# Altium footprint library PCB封装.PcbLib: 150 footprints (part 5 of 10)
Each footprint in its own frame and in the unit in brackets; x right, y up, seen from the top. Pads: shape width x height; smd on the part's side, far side on the other; paste and mask are expansions set on the pad; w line width, h text height; cw(c..) or ccw(c..) is an arc to the next point about the centre after c.
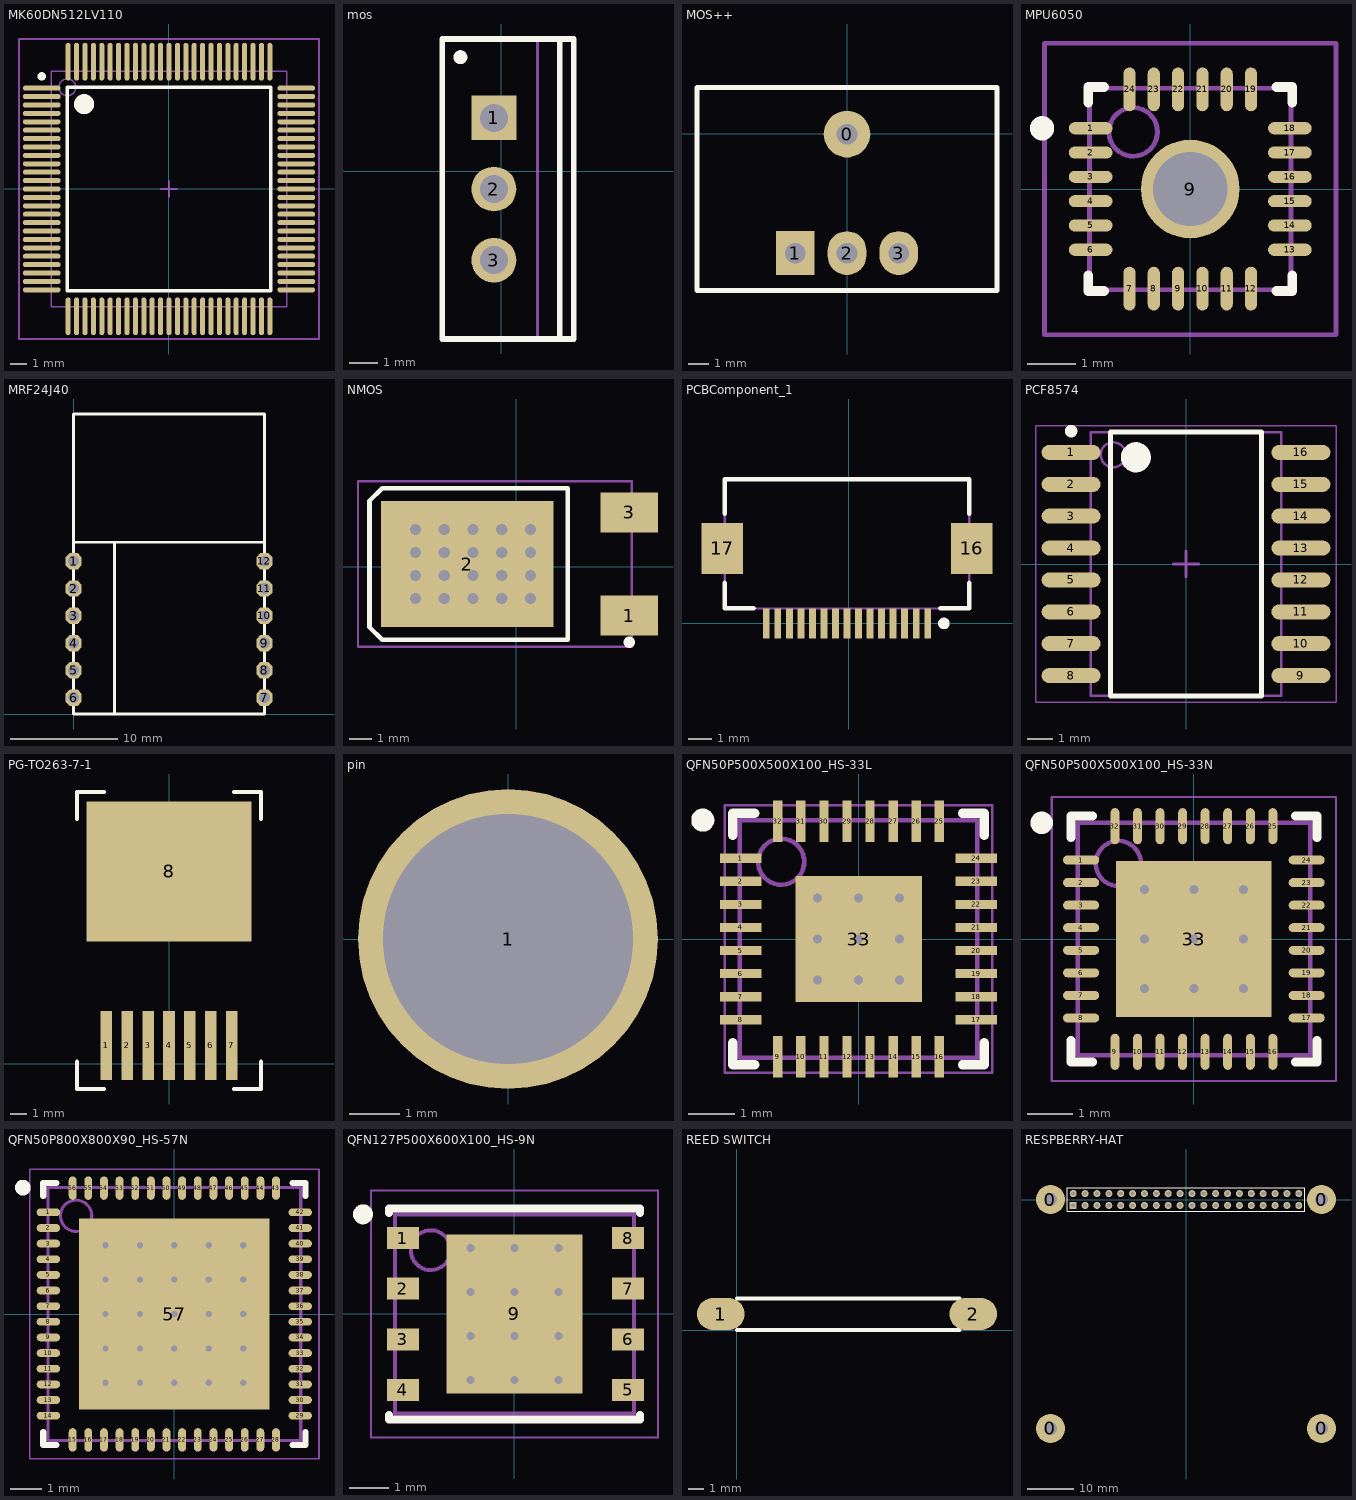
[diagram p4: the footprints below, top view; thin cyan lines are the x and y axes]

## MK60DN512LV110 [mm]
pads (100):
  oval 2.25x0.3 smd: 1(-7.575,6) 2(-7.575,5.5) 3(-7.575,5) 4(-7.575,4.5) 5(-7.575,4) 6(-7.575,3.5) 7(-7.575,3) 8(-7.575,2.5) 9(-7.575,2) 10(-7.575,1.5) 11(-7.575,1) 12(-7.575,0.5) 13(-7.575,0) 14(-7.575,-0.5) 15(-7.575,-1) 16(-7.575,-1.5) 17(-7.575,-2) 18(-7.575,-2.5) 19(-7.575,-3) 20(-7.575,-3.5) 21(-7.575,-4) 22(-7.575,-4.5) 23(-7.575,-5) 24(-7.575,-5.5) 25(-7.575,-6) 51(7.575,-6) 52(7.575,-5.5) 53(7.575,-5) 54(7.575,-4.5) 55(7.575,-4) 56(7.575,-3.5) 57(7.575,-3) 58(7.575,-2.5) 59(7.575,-2) 60(7.575,-1.5) 61(7.575,-1) 62(7.575,-0.5) 63(7.575,0) 64(7.575,0.5) 65(7.575,1) 66(7.575,1.5) 67(7.575,2) 68(7.575,2.5) 69(7.575,3) 70(7.575,3.5) 71(7.575,4) 72(7.575,4.5) 73(7.575,5) 74(7.575,5.5) 75(7.575,6)
  oval 0.3x2.25 smd: 26(-6,-7.575) 27(-5.5,-7.575) 28(-5,-7.575) 29(-4.5,-7.575) 30(-4,-7.575) 31(-3.5,-7.575) 32(-3,-7.575) 33(-2.5,-7.575) 34(-2,-7.575) 35(-1.5,-7.575) 36(-1,-7.575) 37(-0.5,-7.575) 38(0,-7.575) 39(0.5,-7.575) 40(1,-7.575) 41(1.5,-7.575) 42(2,-7.575) 43(2.5,-7.575) 44(3,-7.575) 45(3.5,-7.575) 46(4,-7.575) 47(4.5,-7.575) 48(5,-7.575) 49(5.5,-7.575) 50(6,-7.575) 76(6,7.575) 77(5.5,7.575) 78(5,7.575) 79(4.5,7.575) 80(4,7.575) 81(3.5,7.575) 82(3,7.575) 83(2.5,7.575) 84(2,7.575) 85(1.5,7.575) 86(1,7.575) 87(0.5,7.575) 88(0,7.575) 89(-0.5,7.575) 90(-1,7.575) 91(-1.5,7.575) 92(-2,7.575) 93(-2.5,7.575) 94(-3,7.575) 95(-3.5,7.575) 96(-4,7.575) 97(-4.5,7.575) 98(-5,7.575) 99(-5.5,7.575) 100(-6,7.575)
Top Overlay:
  circle w0.6: c-5.05,5.05 r0.3
  circle w0.25: c-7.575,6.7 r0.125
  lines w0.2: -6.05,-6.05 6.05,-6.05 6.05,6.05 -6.05,6.05 -6.05,-6.05
Mechanical 13:
  circle w0.1: c-6.05,6.05 r0.5
  lines w0.1: -7,-7 7,-7 7,7 -7,7 -7,-7
Mechanical 15:
  lines w0.1: -0.5,0 0.5,0 ; 0,-0.5 0,0.5 ; -8.925,-8.925 8.925,-8.925 8.925,8.925 -8.925,8.925 -8.925,-8.925
3D body: height 1.5, standoff 0.25, extent -7,-7 7,7

## mos [mm]
height 10
pads (3):
  rect 1.6x1.6 hole 1: 1(-0.254,1.905)
  round 1.6 hole 1: 2(-0.254,-0.635) 3(-0.254,-3.175)
Top Overlay:
  circle w0.25: c-1.454,4.065 r0.125
  lines w0.2: 2.096,-5.985 2.096,4.715 ; -2.104,-5.985 2.596,-5.985 2.596,4.715 -2.104,4.715 -2.104,-5.985
Mechanical 13:
  lines w0.1: 1.296,-5.985 1.296,4.715 ; -2.104,-5.985 -2.104,4.715 2.596,4.715 2.596,-5.985 -2.104,-5.985
Mechanical 15:
  lines w0.1: -0.754,-0.635 0.246,-0.635 ; -0.254,-1.135 -0.254,-0.135
3D body: height 12.9, standoff 4, extent -2.154,-6.035 2.646,4.765
3D body: height 19.3, standoff 12.9, extent 1.297,-5.984 2.595,4.714

## MOS++ [mil]
pads (4):
  round 90 hole 40: 0(0,-1)
  rect 75x85 hole 40: 1(-100,-231)
  oval 75x85 hole 40: 2(0,-231) 3(100,-231)
Top Overlay:
  lines w10: -290,-303 -290,89 290,89 290,-303 -290,-303

## MPU6050 [mm]
height 3
pads (26):
  oval 0.9x0.25 smd: 1(-2.05,1.25) 2(-2.05,0.75) 3(-2.05,0.25) 4(-2.05,-0.25) 5(-2.05,-0.75) 6(-2.05,-1.25) 13(2.05,-1.25) 14(2.05,-0.75) 15(2.05,-0.25) 16(2.05,0.25) 17(2.05,0.75) 18(2.05,1.25)
  oval 0.25x0.9 smd: 7(-1.25,-2.05) 8(-0.75,-2.05) 9(-0.25,-2.05) 10(0.25,-2.05) 11(0.75,-2.05) 12(1.25,-2.05) 19(1.25,2.05) 20(0.75,2.05) 21(0.25,2.05) 22(-0.25,2.05) 23(-0.75,2.05) 24(-1.25,2.05)
  round 2.032 hole 1.524: 9(0,0)
  round 0 smd: 25(0,0)
Top Overlay:
  circle w0.25: c-3.05,1.25 r0.125
  lines w0.2: -2.1,-1.775 -2.1,-2.1 -1.775,-2.1 ; -2.1,1.775 -2.1,2.1 -1.775,2.1 ; 1.775,-2.1 2.1,-2.1 2.1,-1.775 ; 1.775,2.1 2.1,2.1 2.1,1.775
Mechanical 13:
  circle w0.1: c-1.175,1.175 r0.5
  lines w0.1: -2.075,-2.075 -2.075,2.075 2.075,2.075 2.075,-2.075 -2.075,-2.075
Mechanical 15:
  lines w0.1: -0.5,0 0.5,0 ; 0,-0.5 0,0.5 ; -3,-3 -3,3 3,3 3,-3 -3,-3
3D body: height 1, standoff 0, extent -2.075,-2.075 2.075,2.075

## MRF24J40 [mil]
pads (12):
  oct 60x60 hole 40: 1(0,560) 2(0,460) 3(0,360) 4(0,260) 5(0,160) 6(0,60) 7(700,60) 8(700,160) 9(700,260) 10(700,360) 11(700,460) 12(700,560)
Top Overlay:
  lines w10: 0,630 700,630 ; 150,0 150,630 ; 0,0 700,0 700,1100 0,1100 0,0

## NMOS [mil]
height 196.85
pads (3):
  rect 100x70 smd: 1(196.22,-84.76) 3(196.22,94.76)
  rect 299.21x218.5 smd: 2(-85.51,5)
via 24.49,-55 diameter 31.5 hole 19.68
via 24.49,-15 diameter 31.5 hole 19.68
via 24.49,65 diameter 31.5 hole 19.68
via 24.49,25 diameter 31.5 hole 19.68
via -175.51,-55 diameter 31.5 hole 19.68
via -75.51,-55 diameter 31.5 hole 19.68
via -25.51,-15 diameter 31.5 hole 19.68
via -25.51,-55 diameter 31.5 hole 19.68
via -25.51,25 diameter 31.5 hole 19.68
via -25.51,65 diameter 31.5 hole 19.68
via -75.51,-15 diameter 31.5 hole 19.68
via -75.51,25 diameter 31.5 hole 19.68
via -75.51,65 diameter 31.5 hole 19.68
via -125.51,-55 diameter 31.5 hole 19.68
via -125.51,-15 diameter 31.5 hole 19.68
via -125.51,25 diameter 31.5 hole 19.68
via -125.51,65 diameter 31.5 hole 19.68
via -175.51,-15 diameter 31.5 hole 19.68
via -175.51,25 diameter 31.5 hole 19.68
via -175.51,65 diameter 31.5 hole 19.68
Top Overlay:
  circle w9.84: c196.22,-131.02 r4.92
  lines w7.87: -255.51,-105 -255.51,115 -233.62,136.89 89.49,136.89 89.49,-126.89 -233.62,-126.89 -255.51,-105
Mechanical 15:
  lines w3.94: -18.35,5 21.02,5 ; 1.34,-14.69 1.34,24.68 ; -275.51,-138.7 -275.51,148.7 200.35,148.7 200.35,-138.7 -275.51,-138.7

## PCBComponent_1 [mm]
pads (17):
  rect 0.3x1.3 smd: 1(3.424,0.001) 2(2.924,0.001) 3(2.424,0.001) 4(1.924,0.001) 5(1.424,0.001) 6(0.924,0.001) 7(0.424,0.001) 8(-0.076,0.001) 9(-0.576,0.001) 10(-1.076,0.001) 11(-1.576,0.001) 12(-2.076,0.001) 13(-2.576,0.001) 14(-3.076,0.001) 15(-3.576,0.001)
  rect 1.8x2.2 smd: 16(5.324,3.251) 17(-5.476,3.251)
Top Overlay:
  circle w0.25: c4.124,0.001 r0.125
  lines w0.2: -5.376,1.751 -5.376,0.651 -4.126,0.651 ; -5.376,4.751 -5.376,6.251 5.224,6.251 5.224,4.751 ; 3.974,0.651 5.224,0.651 5.224,1.751
Mechanical 13:
  lines w0.1: -5.376,0.651 -5.376,6.251 5.224,6.251 5.224,0.651 -5.376,0.651
3D body: height 2, standoff 0, extent -5.376,0.651 5.224,6.251

## PCF8574 [mm] "PCF8574"
height 2.65
pads (16):
  oval 2.35x0.6 smd: 1(-4.575,4.445) 2(-4.575,3.175) 3(-4.575,1.905) 4(-4.575,0.635) 5(-4.575,-0.635) 6(-4.575,-1.905) 7(-4.575,-3.175) 8(-4.575,-4.445) 9(4.575,-4.445) 10(4.575,-3.175) 11(4.575,-1.905) 12(4.575,-0.635) 13(4.575,0.635) 14(4.575,1.905) 15(4.575,3.175) 16(4.575,4.445)
Top Overlay:
  circle w0.6: c-2,4.25 r0.3
  circle w0.25: c-4.575,5.295 r0.125
  lines w0.2: -3,-5.25 3,-5.25 3,5.25 -3,5.25 -3,-5.25
Mechanical 13:
  circle w0.1: c-2.9,4.35 r0.5
  lines w0.1: -3.8,-5.25 3.8,-5.25 3.8,5.25 -3.8,5.25 -3.8,-5.25
Mechanical 15:
  lines w0.05: -5.975,-5.5 5.975,-5.5 5.975,5.5 -5.975,5.5 -5.975,-5.5
  lines w0.1: -0.5,0 0.5,0 ; 0,-0.5 0,0.5
3D body: height 2.65, standoff 0.25, extent -3.8,-5.25 3.8,5.25

## PG-TO263-7-1 [mm]
pads (8):
  rect 0.7x4.2 smd: 1(-3.81,1.123) 2(-2.54,1.123) 3(-1.27,1.123) 4(0,1.123) 5(1.27,1.123) 6(2.54,1.123) 7(3.81,1.123)
  rect 10x8.5 smd: 8(0,11.684)
Top Overlay:
  lines w0.254: -5.588,0.127 -5.588,-1.524 -3.937,-1.524 ; -5.588,14.859 -5.588,16.51 -3.937,16.51 ; 3.937,-1.524 5.588,-1.524 5.588,0.127 ; 3.937,16.51 5.588,16.51 5.588,14.859

## pin [mm]
pads (1):
  round 6 hole 5: 1(0,0)

## QFN50P500X500X100_HS-33L [mm] "MTUSB2046"
height 1
pads (33):
  rect 0.9x0.2 smd: 1(-2.55,1.75) 2(-2.55,1.25) 3(-2.55,0.75) 4(-2.55,0.25) 5(-2.55,-0.25) 6(-2.55,-0.75) 7(-2.55,-1.25) 8(-2.55,-1.75) 17(2.55,-1.75) 18(2.55,-1.25) 19(2.55,-0.75) 20(2.55,-0.25) 21(2.55,0.25) 22(2.55,0.75) 23(2.55,1.25) 24(2.55,1.75)
  rect 0.2x0.9 smd: 9(-1.75,-2.55) 10(-1.25,-2.55) 11(-0.75,-2.55) 12(-0.25,-2.55) 13(0.25,-2.55) 14(0.75,-2.55) 15(1.25,-2.55) 16(1.75,-2.55) 25(1.75,2.55) 26(1.25,2.55) 27(0.75,2.55) 28(0.25,2.55) 29(-0.25,2.55) 30(-0.75,2.55) 31(-1.25,2.55) 32(-1.75,2.55)
  rect 2.74x2.74 smd: 33(0,0)
via -0.889,0.889 diameter 0.5 hole 0.2
via 0.889,-0.889 diameter 0.5 hole 0.2
via 0.889,0.889 diameter 0.5 hole 0.2
via 0,-0.889 diameter 0.5 hole 0.2
via -0.889,-0.889 diameter 0.5 hole 0.2
via 0.889,0 diameter 0.5 hole 0.2
via 0,0 diameter 0.5 hole 0.2
via -0.889,0 diameter 0.5 hole 0.2
via 0,0.889 diameter 0.5 hole 0.2
Top Overlay:
  circle w0.25: c-3.375,2.575 r0.125
  lines w0.2: -2.725,-2.25 -2.725,-2.725 -2.25,-2.725 ; -2.725,2.25 -2.725,2.725 -2.25,2.725 ; 2.25,-2.725 2.725,-2.725 2.725,-2.25 ; 2.25,2.725 2.725,2.725 2.725,2.25
Mechanical 13:
  circle w0.1: c-1.675,1.675 r0.5
  lines w0.1: -2.575,-2.575 2.575,-2.575 2.575,2.575 -2.575,2.575 -2.575,-2.575
Mechanical 15:
  lines w0.05: -2.9,-2.9 2.9,-2.9 2.9,2.9 -2.9,2.9 -2.9,-2.9
  lines w0.1: -0.5,0 0.5,0 ; 0,-0.5 0,0.5
3D body: height 1, standoff 0.05, extent -2.575,-2.575 2.575,2.575

## QFN50P500X500X100_HS-33N [mm] "QFN, 32-Leads, Body 5.00x5.00mm, Pitch 0.50mm, Thermal Pad 3.45x3.45mm, IPC Medium Density TPS65261"
height 1
pads (33):
  oval 0.8x0.2 smd: 1(-2.5,1.75) 2(-2.5,1.25) 3(-2.5,0.75) 4(-2.5,0.25) 5(-2.5,-0.25) 6(-2.5,-0.75) 7(-2.5,-1.25) 8(-2.5,-1.75) 17(2.5,-1.75) 18(2.5,-1.25) 19(2.5,-0.75) 20(2.5,-0.25) 21(2.5,0.25) 22(2.5,0.75) 23(2.5,1.25) 24(2.5,1.75)
  oval 0.2x0.8 smd: 9(-1.75,-2.5) 10(-1.25,-2.5) 11(-0.75,-2.5) 12(-0.25,-2.5) 13(0.25,-2.5) 14(0.75,-2.5) 15(1.25,-2.5) 16(1.75,-2.5) 25(1.75,2.5) 26(1.25,2.5) 27(0.75,2.5) 28(0.25,2.5) 29(-0.25,2.5) 30(-0.75,2.5) 31(-1.25,2.5) 32(-1.75,2.5)
  rect 3.45x3.45 smd: 33(0,0)
via 1.1,-1.1 diameter 0.5 hole 0.2
via 0,-1.1 diameter 0.5 hole 0.2
via -1.1,-1.1 diameter 0.5 hole 0.2
via 1.1,0 diameter 0.5 hole 0.2
via 0,0 diameter 0.5 hole 0.2
via -1.1,0 diameter 0.5 hole 0.2
via 1.1,1.1 diameter 0.5 hole 0.2
via 0,1.1 diameter 0.5 hole 0.2
via -1.1,1.1 diameter 0.5 hole 0.2
Top Overlay:
  circle w0.25: c-3.375,2.575 r0.125
  lines w0.2: -2.725,-2.25 -2.725,-2.725 -2.25,-2.725 ; -2.725,2.25 -2.725,2.725 -2.25,2.725 ; 2.25,-2.725 2.725,-2.725 2.725,-2.25 ; 2.25,2.725 2.725,2.725 2.725,2.25
Mechanical 13:
  circle w0.1: c-1.675,1.675 r0.5
  lines w0.1: -2.575,-2.575 2.575,-2.575 2.575,2.575 -2.575,2.575 -2.575,-2.575
Mechanical 15:
  lines w0.05: -3.15,-3.15 3.15,-3.15 3.15,3.15 -3.15,3.15 -3.15,-3.15
  lines w0.1: -0.5,0 0.5,0 ; 0,-0.5 0,0.5
3D body: height 1, standoff 0.05, extent -2.575,-2.575 2.575,2.575

## QFN50P800X800X90_HS-57N [mm] "QFN, 56-Leads, Body 8.00x8.00mm, Pitch 0.50mm, Thermal Pad 6.10x6.10mm, IPC Medium Density"
height 0.9
pads (57):
  oval 0.75x0.25 smd: 1(-4.025,3.25) 2(-4.025,2.75) 3(-4.025,2.25) 4(-4.025,1.75) 5(-4.025,1.25) 6(-4.025,0.75) 7(-4.025,0.25) 8(-4.025,-0.25) 9(-4.025,-0.75) 10(-4.025,-1.25) 11(-4.025,-1.75) 12(-4.025,-2.25) 13(-4.025,-2.75) 14(-4.025,-3.25) 29(4.025,-3.25) 30(4.025,-2.75) 31(4.025,-2.25) 32(4.025,-1.75) 33(4.025,-1.25) 34(4.025,-0.75) 35(4.025,-0.25) 36(4.025,0.25) 37(4.025,0.75) 38(4.025,1.25) 39(4.025,1.75) 40(4.025,2.25) 41(4.025,2.75) 42(4.025,3.25)
  oval 0.25x0.75 smd: 15(-3.25,-4.025) 16(-2.75,-4.025) 17(-2.25,-4.025) 18(-1.75,-4.025) 19(-1.25,-4.025) 20(-0.75,-4.025) 21(-0.25,-4.025) 22(0.25,-4.025) 23(0.75,-4.025) 24(1.25,-4.025) 25(1.75,-4.025) 26(2.25,-4.025) 27(2.75,-4.025) 28(3.25,-4.025) 43(3.25,4.025) 44(2.75,4.025) 45(2.25,4.025) 46(1.75,4.025) 47(1.25,4.025) 48(0.75,4.025) 49(0.25,4.025) 50(-0.25,4.025) 51(-0.75,4.025) 52(-1.25,4.025) 53(-1.75,4.025) 54(-2.25,4.025) 55(-2.75,4.025) 56(-3.25,4.025)
  rect 6.1x6.1 smd: 57(0,0)
via -2.2,2.2 diameter 0.5 hole 0.2
via -1.1,2.2 diameter 0.5 hole 0.2
via 0,2.2 diameter 0.5 hole 0.2
via 1.1,2.2 diameter 0.5 hole 0.2
via 2.2,2.2 diameter 0.5 hole 0.2
via -2.2,1.1 diameter 0.5 hole 0.2
via -1.1,1.1 diameter 0.5 hole 0.2
via 0,1.1 diameter 0.5 hole 0.2
via 1.1,1.1 diameter 0.5 hole 0.2
via 2.2,1.1 diameter 0.5 hole 0.2
via -2.2,0 diameter 0.5 hole 0.2
via -1.1,0 diameter 0.5 hole 0.2
via 0,0 diameter 0.5 hole 0.2
via 1.1,0 diameter 0.5 hole 0.2
via 2.2,0 diameter 0.5 hole 0.2
via -2.2,-1.1 diameter 0.5 hole 0.2
via -1.1,-1.1 diameter 0.5 hole 0.2
via 0,-1.1 diameter 0.5 hole 0.2
via 1.1,-1.1 diameter 0.5 hole 0.2
via 2.2,-1.1 diameter 0.5 hole 0.2
via -2.2,-2.2 diameter 0.5 hole 0.2
via -1.1,-2.2 diameter 0.5 hole 0.2
via 0,-2.2 diameter 0.5 hole 0.2
via 1.1,-2.2 diameter 0.5 hole 0.2
via 2.2,-2.2 diameter 0.5 hole 0.2
Top Overlay:
  circle w0.25: c-4.84,4.04 r0.125
  lines w0.2: -4.19,-3.775 -4.19,-4.19 -3.775,-4.19 ; -4.19,3.775 -4.19,4.19 -3.775,4.19 ; 3.775,-4.19 4.19,-4.19 4.19,-3.775 ; 3.775,4.19 4.19,4.19 4.19,3.775
Mechanical 13:
  circle w0.1: c-3.14,3.14 r0.5
  lines w0.1: -4.04,-4.04 -4.04,4.04 4.04,4.04 4.04,-4.04 -4.04,-4.04
Mechanical 15:
  lines w0.05: -4.625,-4.625 -4.625,4.625 4.625,4.625 4.625,-4.625 -4.625,-4.625
  lines w0.1: -0.5,0 0.5,0 ; 0,-0.5 0,0.5
3D body: height 0.9, standoff 0.05, extent -4.04,-4.04 4.04,4.04

## QFN127P500X600X100_HS-9N [mm] "QFN, 8-Leads, Body 5.00x6.00mm, Pitch 1.27mm, Thermal Pad 4.00x3.40mm, IPC Medium Density"
height 1
pads (9):
  rect 0.8x0.55 smd: 1(-2.8,1.905) 2(-2.8,0.635) 3(-2.8,-0.635) 4(-2.8,-1.905) 5(2.85,-1.905) 6(2.85,-0.635) 7(2.85,0.635) 8(2.85,1.905)
  rect 3.4x4 smd paste+0 mask+0: 9(0,0)
via -1.1,1.65 diameter 0.5 hole 0.2
via 0,1.65 diameter 0.5 hole 0.2
via 1.1,1.65 diameter 0.5 hole 0.2
via -1.1,0.55 diameter 0.5 hole 0.2
via 0,0.55 diameter 0.5 hole 0.2
via 1.1,0.55 diameter 0.5 hole 0.2
via -1.1,-0.55 diameter 0.5 hole 0.2
via 0,-0.55 diameter 0.5 hole 0.2
via 1.1,-0.55 diameter 0.5 hole 0.2
via -1.1,-1.65 diameter 0.5 hole 0.2
via 0,-1.65 diameter 0.5 hole 0.2
via 1.1,-1.65 diameter 0.5 hole 0.2
Top Overlay:
  circle w0.25: c-3.8,2.5 r0.125
  lines w0.2: -3.15,-2.53 -3.15,-2.65 0.01,-2.65 ; -3.15,2.53 -3.15,2.65 0.01,2.65 ; -0.01,-2.65 3.15,-2.65 3.15,-2.53 ; -0.01,2.65 3.15,2.65 3.15,2.53
Mechanical 13:
  circle w0.1: c-2.1,1.6 r0.5
  lines w0.1: -3,-2.5 -3,2.5 3,2.5 3,-2.5 -3,-2.5
Mechanical 15:
  lines w0.05: -3.6,-3.1 -3.6,3.1 3.6,3.1 3.6,-3.1 -3.6,-3.1
  lines w0.1: -0.5,0 0.5,0 ; 0,-0.5 0,0.5
3D body: height 1, standoff 0.05, extent -3,-2.5 3,2.5

## REED SWITCH [mm]
height 2
pads (2):
  oval 3x2 smd: 1(-1.016,1.016) 2(14.859,1.016)
Top Overlay:
  lines w0.245: 0,0 14,0 ; 0,2 14,2

## RESPBERRY-HAT [mm]
pads (44):
  round 6.2 hole 2.75: 0(-29,-49) 0(-29,0) 0(29,-49) 0(29,0)
  rect 1.5x1.5 hole 0.9: 1(-24.13,-1.27)
  round 1.5 hole 0.9: 2(-24.13,1.27) 3(-21.59,-1.27) 4(-21.59,1.27) 5(-19.05,-1.27) 6(-19.05,1.27) 7(-16.51,-1.27) 8(-16.51,1.27) 9(-13.97,-1.27) 10(-13.97,1.27) 11(-11.43,-1.27) 12(-11.43,1.27) 13(-8.89,-1.27) 14(-8.89,1.27) 15(-6.35,-1.27) 16(-6.35,1.27) 17(-3.81,-1.27) 18(-3.81,1.27) 19(-1.27,-1.27) 20(-1.27,1.27) 21(1.27,-1.27) 22(1.27,1.27) 23(3.81,-1.27) 24(3.81,1.27) 25(6.35,-1.27) 26(6.35,1.27) 27(8.89,-1.27) 28(8.89,1.27) 29(11.43,-1.27) 30(11.43,1.27) 31(13.97,-1.27) 32(13.97,1.27) 33(16.51,-1.27) 34(16.51,1.27) 35(19.05,-1.27) 36(19.05,1.27) 37(21.59,-1.27) 38(21.59,1.27) 39(24.13,-1.27) 40(24.13,1.27)
Top Overlay:
  lines w0.2: -25.4,-2.54 25.4,-2.54 25.4,2.54 -25.4,2.54 -25.4,-2.54
3D body "HEADER.STEP": height 7.58, standoff -2.94, extent 22.86,0 25.4,2.54
3D body "HEADER.STEP": height 7.58, standoff -2.94, extent 20.32,0 22.86,2.54
3D body "HEADER.STEP": height 7.58, standoff -2.94, extent 17.78,0 20.32,2.54
3D body "HEADER.STEP": height 7.58, standoff -2.94, extent 15.24,0 17.78,2.54
3D body "HEADER.STEP": height 7.58, standoff -2.94, extent 22.86,-2.54 25.4,0
3D body "HEADER.STEP": height 7.58, standoff -2.94, extent 20.32,-2.54 22.86,0
3D body "HEADER.STEP": height 7.58, standoff -2.94, extent 17.78,-2.54 20.32,0
3D body "HEADER.STEP": height 7.58, standoff -2.94, extent 15.24,-2.54 17.78,0
3D body "HEADER.STEP": height 7.58, standoff -2.94, extent 12.7,0 15.24,2.54
3D body "HEADER.STEP": height 7.58, standoff -2.94, extent 10.16,0 12.7,2.54
3D body "HEADER.STEP": height 7.58, standoff -2.94, extent 7.62,0 10.16,2.54
3D body "HEADER.STEP": height 7.58, standoff -2.94, extent 5.08,0 7.62,2.54
3D body "HEADER.STEP": height 7.58, standoff -2.94, extent 12.7,-2.54 15.24,0
3D body "HEADER.STEP": height 7.58, standoff -2.94, extent 10.16,-2.54 12.7,0
3D body "HEADER.STEP": height 7.58, standoff -2.94, extent 7.62,-2.54 10.16,0
3D body "HEADER.STEP": height 7.58, standoff -2.94, extent 5.08,-2.54 7.62,0
3D body "HEADER.STEP": height 7.58, standoff -2.94, extent 2.54,0 5.08,2.54
3D body "HEADER.STEP": height 7.58, standoff -2.94, extent 0,0 2.54,2.54
3D body "HEADER.STEP": height 7.58, standoff -2.94, extent -2.54,0 0,2.54
3D body "HEADER.STEP": height 7.58, standoff -2.94, extent -5.08,0 -2.54,2.54
3D body "HEADER.STEP": height 7.58, standoff -2.94, extent 2.54,-2.54 5.08,0
3D body "HEADER.STEP": height 7.58, standoff -2.94, extent 0,-2.54 2.54,0
3D body "HEADER.STEP": height 7.58, standoff -2.94, extent -2.54,-2.54 0,0
3D body "HEADER.STEP": height 7.58, standoff -2.94, extent -5.08,-2.54 -2.54,0
3D body "HEADER.STEP": height 7.58, standoff -2.94, extent -7.62,0 -5.08,2.54
3D body "HEADER.STEP": height 7.58, standoff -2.94, extent -10.16,0 -7.62,2.54
3D body "HEADER.STEP": height 7.58, standoff -2.94, extent -12.7,0 -10.16,2.54
3D body "HEADER.STEP": height 7.58, standoff -2.94, extent -15.24,0 -12.7,2.54
3D body "HEADER.STEP": height 7.58, standoff -2.94, extent -7.62,-2.54 -5.08,0
3D body "HEADER.STEP": height 7.58, standoff -2.94, extent -10.16,-2.54 -7.62,0
3D body "HEADER.STEP": height 7.58, standoff -2.94, extent -12.7,-2.54 -10.16,0
3D body "HEADER.STEP": height 7.58, standoff -2.94, extent -15.24,-2.54 -12.7,0
3D body "HEADER.STEP": height 7.58, standoff -2.94, extent -25.4,-2.54 -22.86,0
3D body "HEADER.STEP": height 7.58, standoff -2.94, extent -22.86,-2.54 -20.32,0
3D body "HEADER.STEP": height 7.58, standoff -2.94, extent -20.32,-2.54 -17.78,0
3D body "HEADER.STEP": height 7.58, standoff -2.94, extent -17.78,-2.54 -15.24,0
3D body "HEADER.STEP": height 7.58, standoff -2.94, extent -25.4,0 -22.86,2.54
3D body "HEADER.STEP": height 7.58, standoff -2.94, extent -22.86,0 -20.32,2.54
3D body "HEADER.STEP": height 7.58, standoff -2.94, extent -20.32,0 -17.78,2.54
3D body "HEADER.STEP": height 7.58, standoff -2.94, extent -17.78,0 -15.24,2.54